# Altium footprint library Fuse.PcbLib: 5 footprints
Each footprint in its own frame and in the unit in brackets; x right, y up, seen from the top. Pads: shape width x height; smd on the part's side, far side on the other; paste and mask are expansions set on the pad; w line width, h text height; cw(c..) or ccw(c..) is an arc to the next point about the centre after c.
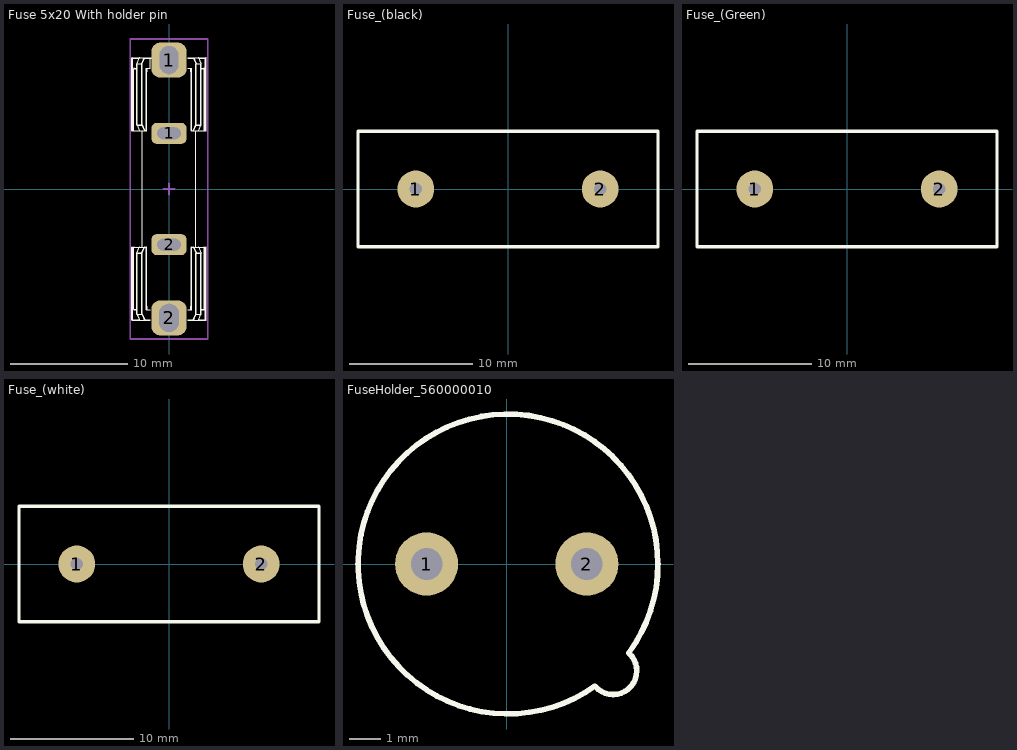
[diagram p0: the footprints below, top view; thin cyan lines are the x and y axes]

## Fuse 5x20 With holder pin [mm]
height 8
pads (4):
  rrect50% 3x1.8 hole 1 slot 2 at 0 deg: 1(0,4.75) 2(0,-4.75)
  rrect50% 3x3 hole 1.6 slot 2.4 at 90 deg: 1(0,11)
  rrect50% 3x3 hole 1.7 slot 2.4 at 90 deg: 2(0,-11)
Top Overlay:
  drawing of 353 lines, arcs and shapes, not listed
Mechanical 15:
  lines w0.15: -0.5,0 0.5,0 ; 0,-0.5 0,0.5 ; -3.3,-12.8 -3.3,12.8 3.3,12.8 3.3,-12.8 -3.3,-12.8
3D body "User Library-Clips FC-201 with fuse 5x20.STEP": height 8.63, standoff -3.56, extent -3.173,-11.689 3.174,11.689

## Fuse_(black) [mm]
pads (2):
  round 3 hole 1: 1(-7.5,0) 2(7.5,0)
Top Overlay:
  lines w0.254: -12.2,-4.7 -12.2,4.7 12.2,4.7 12.2,-4.7 -12.2,-4.7
3D body "User Library-Fuse Holder Black CFH17.STEP": height 12.5, standoff -3.5, extent -12.2,-4.7 12.2,4.7

## Fuse_(Green) [mm]
pads (2):
  round 3 hole 1: 1(-7.5,0) 2(7.5,0)
Top Overlay:
  lines w0.254: -12.2,-4.7 -12.2,4.7 12.2,4.7 12.2,-4.7 -12.2,-4.7
3D body "User Library-Fuse Holder Green CFH17.STEP": height 12.5, standoff -3.5, extent -12.2,-4.7 12.2,4.7

## Fuse_(white) [mm]
pads (2):
  round 3 hole 1: 1(-7.5,0) 2(7.5,0)
Top Overlay:
  lines w0.254: -12.2,-4.7 12.2,-4.7 12.2,4.7 -12.2,4.7 -12.2,-4.7
3D body "User Library-Fuse Holder Cream CFH17.STEP": height 12.5, standoff -3.5, extent -12.199,-4.7 12.201,4.7

## FuseHolder_560000010 [mm]
height 5.6
pads (2):
  round 2 hole 1: 1(-2.54,0) 2(2.54,0)
Top Overlay:
  lines w0.178: -4.71,-0.051 cw(c-4.212,0) -4.71,0.051 ; 4.79,-0.051 ccw(c4.292,0) 4.79,0.051 ; 2.797,-3.868 cw(c0.04,0) 3.863,-2.819 cw(c3.372,-3.386) 2.797,-3.868
Mechanical 5:
  lines w0.127: -4.71,-0.051 cw(c-4.212,0) -4.71,0.051 ; 4.79,-0.051 ccw(c4.292,0) 4.79,0.051 ; 2.797,-3.868 ccw(c3.372,-3.386) 3.863,-2.819 ccw(c0.04,0) 2.797,-3.868
3D body "Littelfuse_560000010.stp": height 5.6, standoff -3, extent -4.752,-4.747 4.752,4.75